# EAGLE library part HI-6138 (library holt-integrated-circuits)
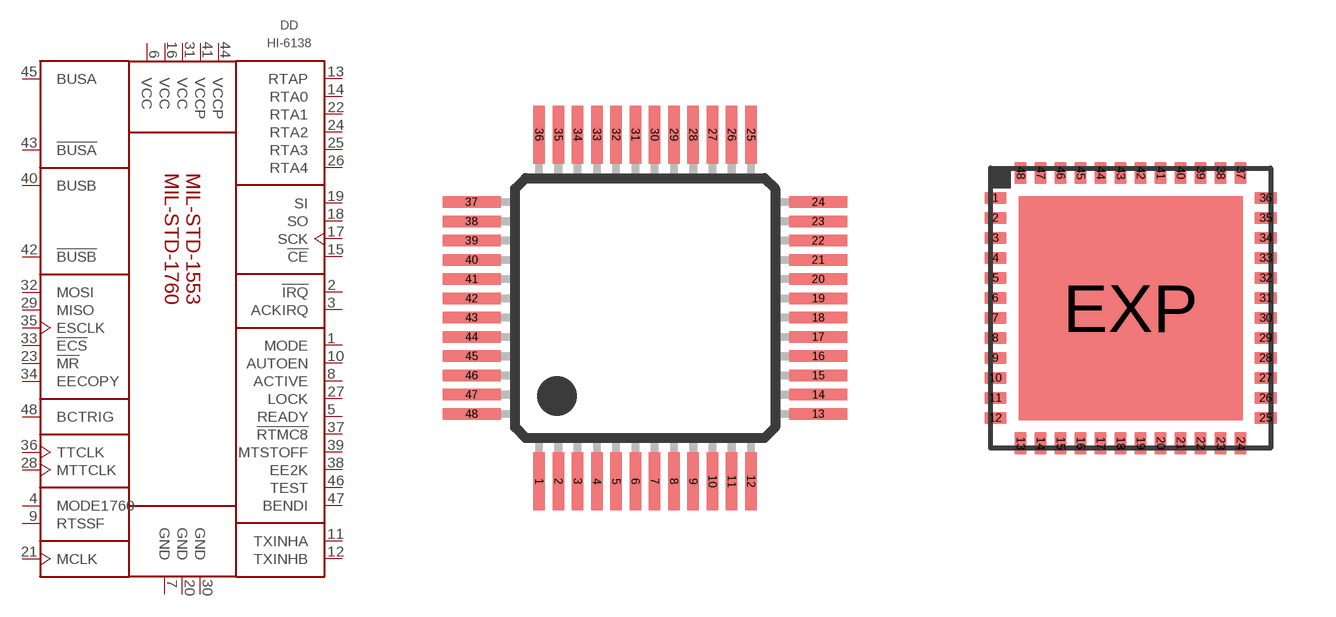
[diagram p0: symbol with the pads of LQFP48; footprints LQFP48, QFN48]

Designator prefix DD

## HI-6138PQI  [LQFP48]
1  MODE
2  !IRQ
3  ACKIRQ
4  MODE1760
5  READY
6  VCC  pwr
7  GND  pwr
8  ACTIVE
9  RTSSF
10  AUTOEN
11  TXINHA
12  TXINHB
13  RTAP
14  RTA0
15  !CE  in
16  VCC  pwr
17  SCK  in
18  SO  out
19  SI  in
20  GND  pwr
21  MCLK  in
22  RTA1
23  !MR
24  RTA2
25  RTA3
26  RTA4
27  LOCK
28  MTTCLK  in
29  MISO  out
30  GND  pwr
31  VCC  pwr
32  MOSI  in
33  !ECS  in
34  EECOPY  in
35  ESCLK  in
36  TTCLK  in
37  !RTMC8  in
38  EE2K
39  MTSTOFF
40  BUSB
41  VCCP  pwr
42  !BUSB
43  !BUSA
44  VCCP  pwr
45  BUSA
46  TEST
47  BENDI
48  BCTRIG

## HI-6138PQT  [LQFP48]
Pads as for LQFP48

## HI-6138PQM  [LQFP48]
Pads as for LQFP48

## HI-6138PCI  [QFN48]
Pads as for LQFP48

## HI-6138PCT  [QFN48]
Pads as for LQFP48

## HI-6138PCM  [QFN48]
Pads as for LQFP48

## Footprint LQFP48 (pad centres in mm)
48-pin plastic LQFP (FPT-48P-M26) www.fma.fujitsu.com/pdf/e713717.pdf
smd 0.3 x 1.5: 1 -2.75,-4.5; 2 -2.25,-4.5; 3 -1.75,-4.5; 4 -1.25,-4.5; 5 -0.75,-4.5; 6 -0.25,-4.5; 7 0.25,-4.5; 8 0.75,-4.5; 9 1.25,-4.5; 10 1.75,-4.5; 11 2.25,-4.5; 12 2.75,-4.5; 25 2.75,4.5; 26 2.25,4.5; 27 1.75,4.5; 28 1.25,4.5; 29 0.75,4.5; 30 0.25,4.5; 31 -0.25,4.5; 32 -0.75,4.5; 33 -1.25,4.5; 34 -1.75,4.5; 35 -2.25,4.5; 36 -2.75,4.5
smd 1.5 x 0.3: 13 4.5,-2.75; 14 4.5,-2.25; 15 4.5,-1.75; 16 4.5,-1.25; 17 4.5,-0.75; 18 4.5,-0.25; 19 4.5,0.25; 20 4.5,0.75; 21 4.5,1.25; 22 4.5,1.75; 23 4.5,2.25; 24 4.5,2.75; 37 -4.5,2.75; 38 -4.5,2.25; 39 -4.5,1.75; 40 -4.5,1.25; 41 -4.5,0.75; 42 -4.5,0.25; 43 -4.5,-0.25; 44 -4.5,-0.75; 45 -4.5,-1.25; 46 -4.5,-1.75; 47 -4.5,-2.25; 48 -4.5,-2.75

## Footprint QFN48 (pad centres in mm)
QFN48 7 x 7 mm, 48-pin ultra thin 0.5 mm pitch quad flat no-lead package
smd 0.55 x 0.3: 1 -3.38,2.75; 2 -3.38,2.25; 3 -3.38,1.75; 4 -3.38,1.25; 5 -3.38,0.75; 6 -3.38,0.25; 7 -3.38,-0.25; 8 -3.38,-0.75; 9 -3.38,-1.25; 10 -3.38,-1.75; 11 -3.38,-2.25; 12 -3.38,-2.75; 25 3.38,-2.75; 26 3.38,-2.25; 27 3.38,-1.75; 28 3.38,-1.25; 29 3.38,-0.75; 30 3.38,-0.25; 31 3.38,0.25; 32 3.38,0.75; 33 3.38,1.25; 34 3.38,1.75; 35 3.38,2.25; 36 3.38,2.75
smd 0.3 x 0.55: 13 -2.75,-3.38; 14 -2.25,-3.38; 15 -1.75,-3.38; 16 -1.25,-3.38; 17 -0.75,-3.38; 18 -0.25,-3.38; 19 0.25,-3.38; 20 0.75,-3.38; 21 1.25,-3.38; 22 1.75,-3.38; 23 2.25,-3.38; 24 2.75,-3.38; 37 2.75,3.38; 38 2.25,3.38; 39 1.75,3.38; 40 1.25,3.38; 41 0.75,3.38; 42 0.25,3.38; 43 -0.25,3.38; 44 -0.75,3.38; 45 -1.25,3.38; 46 -1.75,3.38; 47 -2.25,3.38; 48 -2.75,3.38
smd 5.6 x 5.6: EXP 0,0